# Altium schematic symbol library P_MOSFET.SchLib: 1 symbol
Pins are listed as number, name and electrical type; pins without a type are passive.

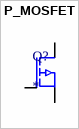
[diagram p0: symbol P_MOSFET]

## P_MOSFET
designator Q?
pins: D, G, S